# Altium schematic symbol library EMF32PG.SchLib: 1 symbol
Pins are listed as number, name and electrical type; pins without a type are passive.

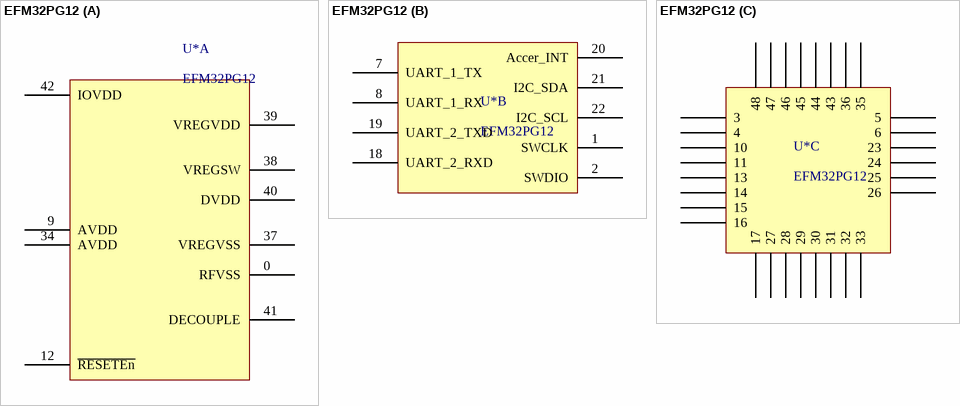
[diagram p0: symbol EFM32PG12]

## EFM32PG12
designator U*
MP: EFM32PG12B500F1024GM48-C; MF: Silicon Labs; Digikey link: https://www.digikey.com/product-detail/en/silicon-labs/EFM32PG12B500F1024GM48-C/336-4419-ND/8186199; Digikey part number: 336-4419-ND; Datasheet link: https://www.silabs.com/documents/public/data-sheets/efm32pg12-datasheet.pdf; Package: 48-VFQFN Exposed Pad; Price: 4.43; Supplier 1: Digi-Key; Supplier Part Number 1: 336-4419-ND
footprint QFN50P700X700X90_HS-49N_ (QFN, 48-Leads, Body 7.00x7.00mm, Pitch 0.50mm, Thermal Pad 5.75x5.75mm, IPC Medium Density)
part A pins: 0 RFVSS, 9 AVDD, 12 ~{RESETEn}, 34 AVDD, 37 VREGVSS, 38 VREGSW, 39 VREGVDD, 40 DVDD, 41 DECOUPLE, 42 IOVDD
part B pins: 1 SWCLK, 2 SWDIO, 7 UART_1_TX, 8 UART_1_RX, 18 UART_2_RXD, 19 UART_2_TXD, 20 Accer_INT, 21 I2C_SDA, 22 I2C_SCL
part C pins: 3, 4, 5, 6, 10, 11, 13, 14, 15, 16, 17, 23, 24, 25, 26, 27, 28, 29, 30, 31, 32, 33, 35, 36, 43, 44, 45, 46, 47, 48